# Altium schematic symbol library mmbt3904t.SchLib: 1 symbol
Pins are listed as number, name and electrical type; pins without a type are passive.

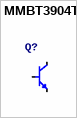
[diagram p0: symbol MMBT3904T]

## MMBT3904T
designator Q?
Bipolar (BJT) Transistor NPN 40 V 200 mA 300MHz 150 mW Surface Mount SOT-523
pins: 1 B, 2 E, 3 C